# Altium integrated library Header3.96.IntLib: 14 symbols
Pins are listed as number, name and electrical type; pins without a type are passive.

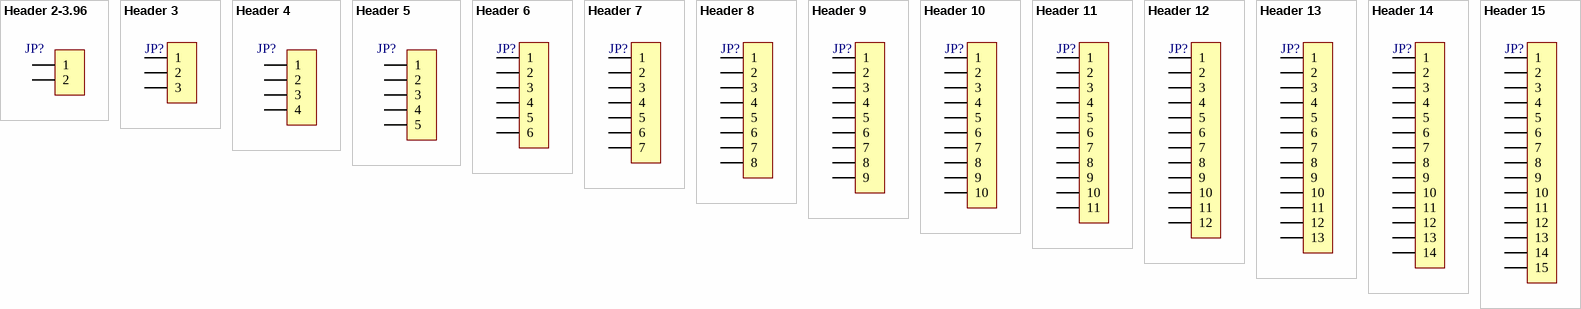
[diagram p0: symbols Header 2-3.96 to Header 15]

## Header 2-3.96
designator JP?, comment HDR-1X2  (value not drawn)
2P接插件; 版权归属: 源创客; BOM名称: 2P接插件; 学习资源: www.ooocke.com
footprint VH3.96-LI-2P (接插件，25V/5A)
footprint VH3.96-WI-2P (接插件，25V/5A)
footprint HT3.96-LI-2P (HT3.96立插端子)
footprint HT3.96-WI-2P (HT3.96卧插端子)
footprint HT3.96-LI-2P-ORG (HT3.96立插端子)
footprint HT3.96-WI-2P-ORG (HT3.96卧插端子)
pins: 1, 2

## Header 3
designator JP?, comment HDR-1X3  (value not drawn)
3P接插件; 版权归属: 源创客; BOM名称: 3P接插件; 学习资源: www.ooocke.com
footprint VH3.96-LI-3P (接插件，25V/5A)
footprint VH3.96-WI-3P (接插件，25V/5A)
footprint HT3.96-LI-3P (HT3.96立插端子)
footprint HT3.96-WI-3P (HT3.96卧插端子)
footprint HT3.96-LI-3P-ORG (HT3.96立插端子)
footprint HT3.96-WI-3P-ORG (HT3.96卧插端子)
pins: 1, 2, 3

## Header 4
designator JP?, comment HDR-1X4  (value not drawn)
4P接插件; 版权归属: 源创客; BOM名称: 4P接插件; 学习资源: www.ooocke.com
footprint VH3.96-LI-4P (接插件，25V/5A)
footprint VH3.96-WI-4P (接插件，25V/5A)
footprint HT3.96-LI-4P (HT3.96立插端子)
footprint HT3.96-WI-4P (HT3.96卧插端子)
footprint HT3.96-LI-4P-ORG (HT3.96立插端子)
footprint HT3.96-WI-4P-ORG (HT3.96卧插端子)
pins: 1, 2, 3, 4

## Header 5
designator JP?, comment HDR-1X5  (value not drawn)
5P接插件; 版权归属: 源创客; BOM名称: 5P接插件; 学习资源: www.ooocke.com
footprint VH3.96-LI-5P (接插件，25V/5A)
footprint VH3.96-WI-5P (接插件，25V/5A)
footprint HT3.96-LI-5P (HT3.96立插端子)
footprint HT3.96-WI-5P (HT3.96卧插端子)
footprint HT3.96-LI-5P-ORG (HT3.96立插端子)
footprint HT3.96-WI-5P-ORG (HT3.96卧插端子)
pins: 1, 2, 3, 4, 5

## Header 6
designator JP?, comment HDR-1X6  (value not drawn)
6P接插件; 版权归属: 源创客; BOM名称: 6P接插件; 学习资源: www.ooocke.com
footprint VH3.96-LI-6P (接插件，25V/5A)
footprint VH3.96-WI-6P (接插件，25V/5A)
footprint HT3.96-LI-6P (HT3.96立插端子)
footprint HT3.96-WI-6P (HT3.96卧插端子)
footprint HT3.96-LI-6P-ORG (HT3.96立插端子)
footprint HT3.96-WI-6P-ORG (HT3.96卧插端子)
pins: 1, 2, 3, 4, 5, 6

## Header 7
designator JP?, comment HDR-1X7  (value not drawn)
7P接插件; 版权归属: 源创客; BOM名称: 7P接插件; 学习资源: www.ooocke.com
footprint VH3.96-LI-7P (接插件，25V/5A)
footprint VH3.96-WI-7P (接插件，25V/5A)
footprint HT3.96-LI-7P (HT3.96立插端子)
footprint HT3.96-WI-7P (HT3.96卧插端子)
footprint HT3.96-LI-7P-ORG (HT3.96立插端子)
footprint HT3.96-WI-7P-ORG (HT3.96卧插端子)
pins: 1, 2, 3, 4, 5, 6, 7

## Header 8
designator JP?, comment HDR-1X8  (value not drawn)
8P接插件; 版权归属: 源创客; BOM名称: 8P接插件; 学习资源: www.ooocke.com
footprint VH3.96-LI-8P (接插件，25V/5A)
footprint VH3.96-WI-8P (接插件，25V/5A)
footprint HT3.96-LI-8P (HT3.96立插端子)
footprint HT3.96-WI-8P (HT3.96卧插端子)
footprint HT3.96-LI-8P-ORG (HT3.96立插端子)
footprint HT3.96-WI-8P-ORG (HT3.96卧插端子)
pins: 1, 2, 3, 4, 5, 6, 7, 8

## Header 9
designator JP?, comment HDR-1X9  (value not drawn)
9P接插件; 版权归属: 源创客; BOM名称: 9P接插件; 学习资源: www.ooocke.com
footprint VH3.96-LI-9P (接插件，25V/5A)
footprint VH3.96-WI-9P (接插件，25V/5A)
footprint HT3.96-LI-9P (HT3.96立插端子)
footprint HT3.96-WI-9P (HT3.96卧插端子)
footprint HT3.96-LI-9P-ORG (HT3.96立插端子)
footprint HT3.96-WI-9P-ORG (HT3.96卧插端子)
pins: 1, 2, 3, 4, 5, 6, 7, 8, 9

## Header 10
designator JP?, comment HDR-1X10  (value not drawn)
10P接插件; 版权归属: 源创客; BOM名称: 10P接插件; 学习资源: www.ooocke.com
footprint VH3.96-LI-10P (接插件，25V/5A)
footprint VH3.96-WI-10P (接插件，25V/5A)
footprint HT3.96-LI-10P (HT3.96立插端子)
footprint HT3.96-WI-10P (HT3.96卧插端子)
footprint HT3.96-LI-10P-ORG (HT3.96立插端子)
footprint HT3.96-WI-10P-ORG (HT3.96卧插端子)
pins: 1, 2, 3, 4, 5, 6, 7, 8, 9, 10

## Header 11
designator JP?, comment HDR-1X11  (value not drawn)
11P接插件; 版权归属: 源创客; BOM名称: 11P接插件; 学习资源: www.ooocke.com
footprint HT3.96-LI-11P (HT3.96立插端子)
footprint HT3.96-WI-11P (HT3.96卧插端子)
footprint VH3.96-LI-11P (接插件，25V/5A)
footprint VH3.96-WI-11P (接插件，25V/5A)
footprint HT3.96-LI-11P-ORG (HT3.96立插端子)
footprint HT3.96-WI-11P-ORG (HT3.96卧插端子)
pins: 1, 2, 3, 4, 5, 6, 7, 8, 9, 10, 11

## Header 12
designator JP?, comment HDR-1X12  (value not drawn)
12P接插件; 版权归属: 源创客; BOM名称: 12P接插件; 学习资源: www.ooocke.com
footprint HT3.96-LI-12P (HT3.96立插端子)
footprint HT3.96-WI-12P (HT3.96卧插端子)
footprint VH3.96-LI-12P (接插件，25V/5A)
footprint VH3.96-WI-12P (接插件，25V/5A)
footprint HT3.96-LI-12P-ORG (HT3.96立插端子)
footprint HT3.96-WI-12P-ORG (HT3.96卧插端子)
pins: 1, 2, 3, 4, 5, 6, 7, 8, 9, 10, 11, 12

## Header 13
designator JP?, comment HDR-1X13  (value not drawn)
13P接插件; 版权归属: 源创客; BOM名称: 13P接插件; 学习资源: www.ooocke.com
footprint HT3.96-LI-13P (HT3.96立插端子)
footprint HT3.96-WI-13P (HT3.96卧插端子)
footprint VH3.96-LI-13P (接插件，25V/5A)
footprint VH3.96-WI-13P (接插件，25V/5A)
footprint HT3.96-WI-13P-ORG (HT3.96卧插端子)
footprint HT3.96-WI-13P-ORG (HT3.96卧插端子)
pins: 1, 2, 3, 4, 5, 6, 7, 8, 9, 10, 11, 12, 13

## Header 14
designator JP?, comment HDR-1X14  (value not drawn)
14P接插件; 版权归属: 源创客; BOM名称: 14P接插件; 学习资源: www.ooocke.com
footprint HT3.96-LI-14P (HT3.96立插端子)
footprint HT3.96-WI-14P (HT3.96卧插端子)
footprint VH3.96-LI-14P (接插件，25V/5A)
footprint VH3.96-WI-14P (接插件，25V/5A)
footprint HT3.96-LI-14P-ORG (HT3.96立插端子)
footprint HT3.96-WI-14P-ORG (HT3.96卧插端子)
pins: 1, 2, 3, 4, 5, 6, 7, 8, 9, 10, 11, 12, 13, 14

## Header 15
designator JP?, comment HDR-1X15  (value not drawn)
15P接插件; 版权归属: 源创客; BOM名称: 15P接插件; 学习资源: www.ooocke.com
footprint HT3.96-LI-15P (HT3.96立插端子)
footprint HT3.96-WI-15P (HT3.96卧插端子)
footprint VH3.96-LI-15P (接插件，25V/5A)
footprint VH3.96-WI-15P (接插件，25V/5A)
footprint HT3.96-LI-15P-ORG (HT3.96立插端子)
footprint HT3.96-WI-15P-ORG (HT3.96卧插端子)
pins: 1, 2, 3, 4, 5, 6, 7, 8, 9, 10, 11, 12, 13, 14, 15